# EAGLE library part PAM8403 (library FUCK)
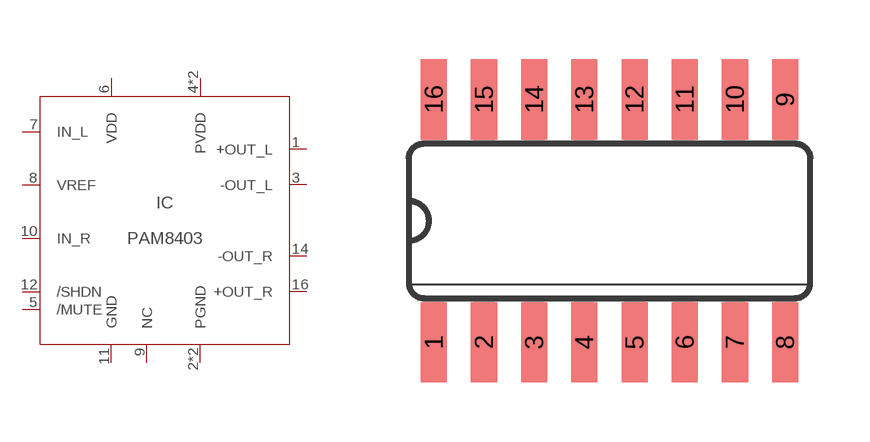
[diagram p4: symbol with the pads of SOIC-16; footprint SOIC-16]

Designator prefix IC

## PAM8403  [SOIC-16]
1  +OUT_L  out
2  PGND  pas
3  -OUT_L  out
4  PVDD  in
5  /MUTE  in
6  VDD  in
7  IN_L  in
8  VREF  in
9  NC  pas
10  IN_R  in
11  GND  pas
12  /SHDN  in
13  PVDD  in
14  -OUT_R  out
15  PGND  pas
16  +OUT_R  out

## Footprint SOIC-16 (pad centres in mm)
Small Outline package 150 mil
smd 0.66 x 2.032: 1 -4.445,-3.073; 2 -3.175,-3.073; 3 -1.905,-3.073; 4 -0.635,-3.073; 5 0.635,-3.073; 6 1.905,-3.073; 7 3.175,-3.073; 8 4.445,-3.073; 9 4.445,3.073; 10 3.175,3.073; 11 1.905,3.073; 12 0.635,3.073; 13 -0.635,3.073; 14 -1.905,3.073; 15 -3.175,3.073; 16 -4.445,3.073